# EAGLE library part BA6218 (library linear)
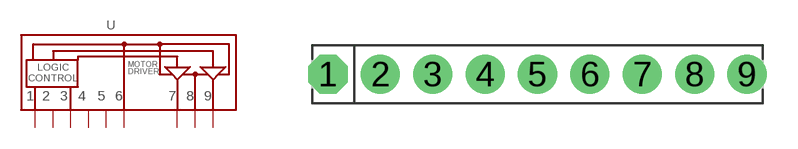
[diagram p257: symbol with the pads of SIP9; footprint SIP9]

Designator prefix -

## BA6218SIP9  [SIP9]
1  1
2  2
3  3
4  4
5  5
6  6
7  7
8  8
9  9

## Footprint SIP9 (pad centres in mm)
drill 0.9 pad 1.9 octagon: 1 -10.16,0
drill 0.9 pad 1.9 round: 2 -7.62,0; 3 -5.08,0; 4 -2.54,0; 5 0,0; 6 2.54,0; 7 5.08,0; 8 7.62,0; 9 10.16,0